# Altium schematic symbol library SCH - DIODES - TVS - Nexperia PESD2ETH-AXR.Schlib: 1 symbol
Pins are listed as number, name and electrical type; pins without a type are passive.

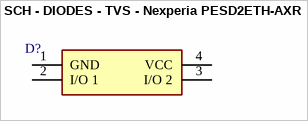
[diagram p0: symbol SCH - DIODES - TVS - Nexperia PESD2ETH-AXR]

## SCH - DIODES - TVS - Nexperia PESD2ETH-AXR
designator D?
footprint PESD2ETHAXR
pins: 1 GND, 2 I/O 1, 3 I/O 2, 4 VCC